# Altium schematic symbol library ic-rf-transceiver.SchLib: 6 symbols
Pins are listed as number, name and electrical type; pins without a type are passive.

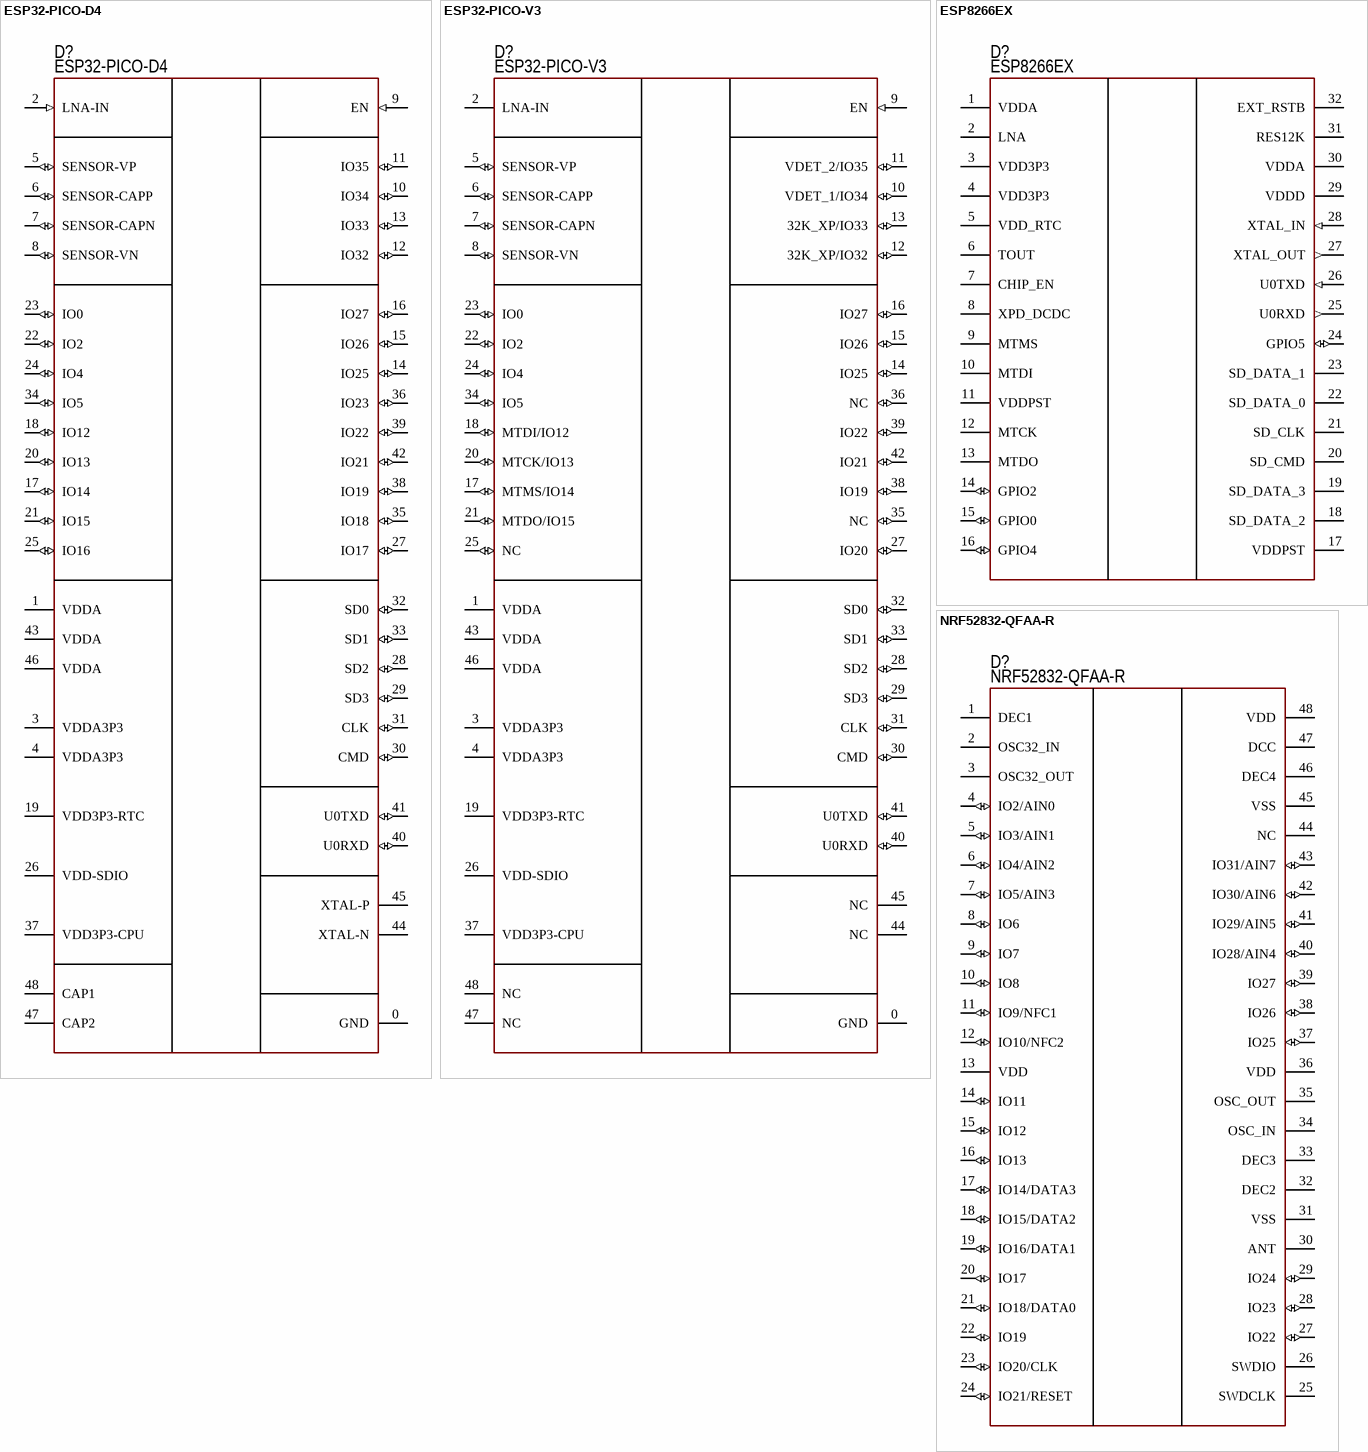
[diagram p0: symbols ESP32-PICO-D4 to NRF52832-QFAA-R]

## ESP32-PICO-D4
designator D?  PartNumber: ESP32-PICO-D4
Wi-Fi+BT; Manufacturer: Espressif Systems; ValueManufacturerPartNumber: IC RF transceiver, 802.11b/g/n + Bluetooth v4.2, 2.4GHz, 32-Bit, Xtensa LX6, 4Mb, 520KB, 2.7...3.6V, -40...+85°C, 48-LGA; Supply: 2.7...3.6V; CoreSpeed: 600 DMIPS; CoreSize: 32-Bit; MemoryROM: 4Mb; MemoryRAM: 520KB; CoreProcessor: Xtensa LX6; Frequency: 2.4GHz; TypeProtocol: 802.11b/g/n + Bluetooth v4.2; HelpURL: https://www.digikey.com/product-detail/en/espressif-systems/ESP32-PICO-D4/1904-1029-1-ND/9381738; Package: 48-LGA; ComponentType: IC RF transceiver; Temperature: -40...+85°C
footprint 48-LGA (7x7) (7x7 mm, pitch 0.5 mm, power pad)
pins: 0 GND, 1 VDDA, 2 LNA-IN (in), 3 VDDA3P3, 4 VDDA3P3, 5 SENSOR-VP (io), 6 SENSOR-CAPP (io), 7 SENSOR-CAPN (io), 8 SENSOR-VN (io), 9 EN (in), 10 IO34 (io), 11 IO35 (io), 12 IO32 (io), 13 IO33 (io), 14 IO25 (io), 15 IO26 (io), 16 IO27 (io), 17 IO14 (io), 18 IO12 (io), 19 VDD3P3-RTC, 20 IO13 (io), 21 IO15 (io), 22 IO2 (io), 23 IO0 (io), 24 IO4 (io), 25 IO16 (io), 26 VDD-SDIO, 27 IO17 (io), 28 SD2 (io), 29 SD3 (io), 30 CMD (io), 31 CLK (io), 32 SD0 (io), 33 SD1 (io), 34 IO5 (io), 35 IO18 (io), 36 IO23 (io), 37 VDD3P3-CPU, 38 IO19 (io), 39 IO22 (io), 40 U0RXD (io), 41 U0TXD (io), 42 IO21 (io), 43 VDDA, 44 XTAL-N, 45 XTAL-P, 46 VDDA, 47 CAP2, 48 CAP1

## ESP32-PICO-V3
designator D?  PartNumber: ESP32-PICO-V3
Wi-Fi+BT; Manufacturer: Espressif Systems; ValueManufacturerPartNumber: IC RF transceiver, 802.11b/g/n + Bluetooth v4.2, 2.4GHz, 32-Bit, Xtensa LX6, 4Mb, 520KB, 2.7...3.6V, -40...+85°C, 48-LGA; Supply: 2.7...3.6V; CoreSpeed: 600 DMIPS; CoreSize: 32-Bit; MemoryROM: 4Mb; MemoryRAM: 520KB; CoreProcessor: Xtensa LX6; Frequency: 2.4GHz; TypeProtocol: 802.11b/g/n + Bluetooth v4.2; HelpURL: https://www.digikey.com/product-detail/en/espressif-systems/ESP32-PICO-D4/1904-1029-1-ND/9381738; Package: 48-LGA; ComponentType: IC RF transceiver; Temperature: -40...+85°C
footprint 48-LGA (7x7) (7x7 mm, pitch 0.5 mm, power pad)
pins: 0 GND, 1 VDDA, 2 LNA-IN, 3 VDDA3P3, 4 VDDA3P3, 5 SENSOR-VP (io), 6 SENSOR-CAPP (io), 7 SENSOR-CAPN (io), 8 SENSOR-VN (io), 9 EN (in), 10 VDET_1/IO34 (io), 11 VDET_2/IO35 (io), 12 32K_XP/IO32 (io), 13 32K_XP/IO33 (io), 14 IO25 (io), 15 IO26 (io), 16 IO27 (io), 17 MTMS/IO14 (io), 18 MTDI/IO12 (io), 19 VDD3P3-RTC, 20 MTCK/IO13 (io), 21 MTDO/IO15 (io), 22 IO2 (io), 23 IO0 (io), 24 IO4 (io), 25 NC (io), 26 VDD-SDIO, 27 IO20 (io), 28 SD2 (io), 29 SD3 (io), 30 CMD (io), 31 CLK (io), 32 SD0 (io), 33 SD1 (io), 34 IO5 (io), 35 NC (io), 36 NC (io), 37 VDD3P3-CPU, 38 IO19 (io), 39 IO22 (io), 40 U0RXD (io), 41 U0TXD (io), 42 IO21 (io), 43 VDDA, 44 NC, 45 NC, 46 VDDA, 47 NC, 48 NC

## ESP8266EX
designator D?  PartNumber: ESP8266EX
Wi-Fi; Manufacturer: Espressif Systems; ValueManufacturerPartNumber: IC RF transceiver, 802.11b/g/n, 2.4GHz, 32-Bit, Cortex-M3, External FLASH, 50KB, 2.5...3.6V, -40...+85°C, 32-VFQFN; Supply: 2.5...3.6V; CoreSpeed: 160 MHz; CoreSize: 32-Bit; MemoryROM: External FLASH; MemoryRAM: 50KB; CoreProcessor: Cortex-M3; Frequency: 2.4GHz; TypeProtocol: 802.11b/g/n; HelpURL: https://www.digikey.com/product-detail/en/espressif-systems/ESP8266EX/1904-1001-1-ND/8028408; Package: 32-VFQFN; ComponentType: IC RF transceiver; Temperature: -40...+85°C
footprint 32-QFN (5x5 mm, pitch 0.5 mm, power pad)
pins: 1 VDDA, 2 LNA, 3 VDD3P3, 4 VDD3P3, 5 VDD_RTC, 6 TOUT, 7 CHIP_EN, 8 XPD_DCDC, 9 MTMS, 10 MTDI, 11 VDDPST, 12 MTCK, 13 MTDO, 14 GPIO2 (io), 15 GPIO0 (io), 16 GPIO4 (io), 17 VDDPST, 18 SD_DATA_2, 19 SD_DATA_3, 20 SD_CMD, 21 SD_CLK, 22 SD_DATA_0, 23 SD_DATA_1, 24 GPIO5 (io), 25 U0RXD (out), 26 U0TXD (in), 27 XTAL_OUT (out), 28 XTAL_IN (in), 29 VDDD, 30 VDDA, 31 RES12K, 32 EXT_RSTB

## NRF52832-QFAA-R
designator D?  PartNumber: NRF52832-QFAA-R
BLE; Manufacturer: Nordic Semiconductor; ValueManufacturerPartNumber: IC RF transceiver, 2.4 GHz (BLE v4.1), 32-Bit, Cortex-M4, 64 MHz, 512KB, 64KB, 1.7...3.6V, -40...+85°C, 48-VFQFN; Supply: 1.7...3.6V; CoreSpeed: 64 MHz; CoreSize: 32-Bit; MemoryROM: 512KB; MemoryRAM: 64KB; CoreProcessor: Cortex-M4; Frequency: 2.4 GHz (BLE v4.1); HelpURL: https://www.digikey.com/product-detail/en/nordic-semiconductor-asa/NRF52832-QFAA-R/1490-1052-1-ND/5428660; Package: 48-VFQFN; ComponentType: IC RF transceiver; Temperature: -40...+85°C
footprint 48-QFN (6x6) (6x6 mm, pitch 0.4 mm, power pad)
pins: 1 DEC1, 2 OSC32_IN, 3 OSC32_OUT, 4 IO2/AIN0 (io), 5 IO3/AIN1 (io), 6 IO4/AIN2 (io), 7 IO5/AIN3 (io), 8 IO6 (io), 9 IO7 (io), 10 IO8 (io), 11 IO9/NFC1 (io), 12 IO10/NFC2 (io), 13 VDD, 14 IO11 (io), 15 IO12 (io), 16 IO13 (io), 17 IO14/DATA3 (io), 18 IO15/DATA2 (io), 19 IO16/DATA1 (io), 20 IO17 (io), 21 IO18/DATA0 (io), 22 IO19 (io), 23 IO20/CLK (io), 24 IO21/RESET (io), 25 SWDCLK, 26 SWDIO, 27 IO22 (io), 28 IO23 (io), 29 IO24 (io), 30 ANT, 31 VSS, 32 DEC2, 33 DEC3, 34 OSC_IN, 35 OSC_OUT, 36 VDD, 37 IO25 (io), 38 IO26 (io), 39 IO27 (io), 40 IO28/AIN4 (io), 41 IO29/AIN5 (io), 42 IO30/AIN6 (io), 43 IO31/AIN7 (io), 44 NC, 45 VSS, 46 DEC4, 47 DCC, 48 VDD

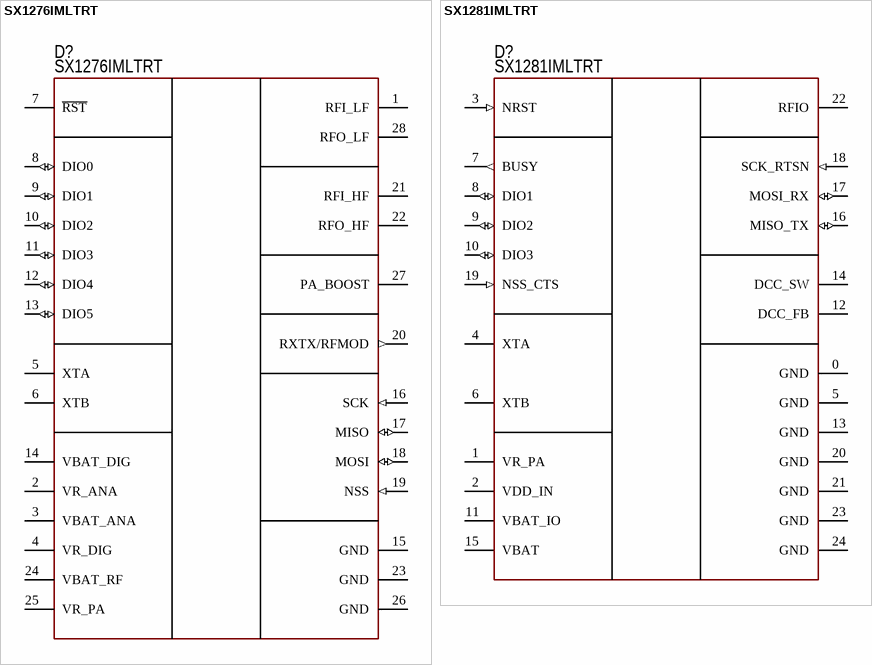
[diagram p1: symbols SX1276IMLTRT to SX1281IMLTRT]

## SX1276IMLTRT
designator D?  PartNumber: SX1276IMLTRT
137 MHz to 1.02 GHz FLRC, GFSK, LoRa transceiver; Manufacturer: Semtech; Supply: 1.8...3.7V; Frequency: 137 MHz-1.02 GHz; HelpURL: https://semtech.my.salesforce.com/sfc/p/E0000000JelG/a/2R000000HoCb/X1yTNr5aeVlmviwNhvHyX9a2wSTSla.JWmnEtvAAlRk; Package: QFN-24; ComponentType: IC RF transceiver; ValueManufacturerPartNumber: =ComponentType+', '+TypeProtocol+', '+Frequency+', '+CoreSize+', '+CoreProcessor+', '+MemoryROM+', '+MemoryRAM+', '+Supply+', '+Temperature+', '+Package; Temperature: -40...+85°C; TypeProtocol: LoRa
footprint 28-QFN (6x6) (6x6 mm, pitch 0.65 mm, power pad)
pins: 1 RFI_LF, 2 VR_ANA (power), 3 VBAT_ANA (power), 4 VR_DIG (power), 5 XTA, 6 XTB, 7 ~{RST}, 8 DIO0 (io), 9 DIO1 (io), 10 DIO2 (io), 11 DIO3 (io), 12 DIO4 (io), 13 DIO5 (io), 14 VBAT_DIG (power), 15 GND (power), 16 SCK (in), 17 MISO (io), 18 MOSI (io), 19 NSS (in), 20 RXTX/RFMOD (out), 21 RFI_HF, 22 RFO_HF, 23 GND (power), 24 VBAT_RF (power), 25 VR_PA (power), 26 GND (power), 27 PA_BOOST, 28 RFO_LF

## SX1281IMLTRT
designator D?  PartNumber: SX1281IMLTRT
2.4 GHz FLRC, GFSK, LoRa transceiver; Manufacturer: Semtech; Supply: 1.8...3.7V; Frequency: 2.4GHz; HelpURL: https://semtech.my.salesforce.com/sfc/p/E0000000JelG/a/2R000000HoCb/X1yTNr5aeVlmviwNhvHyX9a2wSTSla.JWmnEtvAAlRk; Package: QFN-24; ComponentType: IC RF transceiver; ValueManufacturerPartNumber: =ComponentType+', '+TypeProtocol+', '+Frequency+', '+CoreSize+', '+CoreProcessor+', '+MemoryROM+', '+MemoryRAM+', '+Supply+', '+Temperature+', '+Package; Temperature: -40...+85°C; TypeProtocol: LoRa
footprint 24-QFN (4X4) (4x4 mm, pitch 0.5 mm, power pad)
pins: 0 GND (power), 1 VR_PA (power), 2 VDD_IN (power), 3 NRST (in), 4 XTA, 5 GND (power), 6 XTB, 7 BUSY (out), 8 DIO1 (io), 9 DIO2 (io), 10 DIO3 (io), 11 VBAT_IO (power), 12 DCC_FB, 13 GND (power), 14 DCC_SW, 15 VBAT (power), 16 MISO_TX (io), 17 MOSI_RX (io), 18 SCK_RTSN (in), 19 NSS_CTS (in), 20 GND (power), 21 GND (power), 22 RFIO, 23 GND (power), 24 GND (power)